# Altium schematic symbol library SL_Other.SchLib: 12 symbols
Pins are listed as number, name and electrical type; pins without a type are passive.

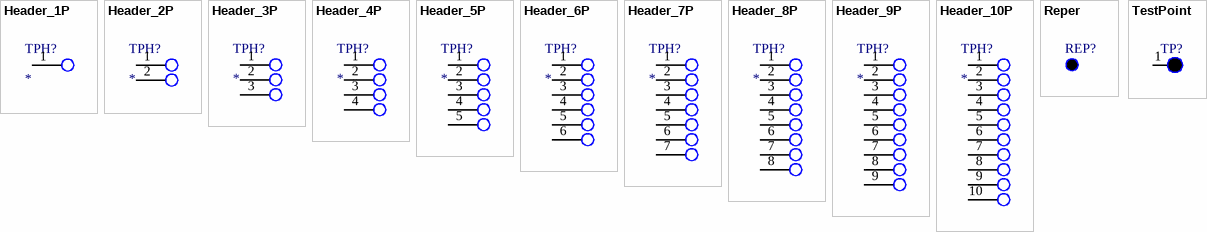
[diagram p0: symbols Header_1P to TestPoint]

## Header_1P
designator TPH?  (no BOM)
Dot 1P
footprint HEADER_R0.3_1P
footprint HEADER_R0.5_1P
footprint HEADER_R0.7_1P
footprint HEADER_R0.9_1P
footprint HEADER_R1.1_1P
footprint HEADER_R1.3_1P
pins: 1

## Header_2P
designator TPH?  (no BOM)
Dot 2P
footprint HEADER_R0.3_2P
footprint HEADER_R0.5_2P
footprint HEADER_R0.7_2P
footprint HEADER_R0.9_2P
footprint HEADER_R1.1_2P
footprint HEADER_R1.3_2P
pins: 1, 2

## Header_3P
designator TPH?  (no BOM)
Dot 3P
footprint HEADER_R0.3_3P
footprint HEADER_R0.5_3P
footprint HEADER_R0.7_3P
footprint HEADER_R0.9_3P
footprint HEADER_R1.1_3P
footprint HEADER_R1.3_3P
pins: 1, 2, 3

## Header_4P
designator TPH?  (no BOM)
Dot 4P
footprint HEADER_R0.3_4P
footprint HEADER_R0.5_4P
footprint HEADER_R0.7_4P
footprint HEADER_R0.9_4P
footprint HEADER_R1.1_4P
footprint HEADER_R1.3_4P
pins: 1, 2, 3, 4

## Header_5P
designator TPH?  (no BOM)
Dot 5P
footprint HEADER_R0.3_5P
footprint HEADER_R0.5_5P
footprint HEADER_R0.7_5P
footprint HEADER_R0.9_5P
footprint HEADER_R1.1_5P
footprint HEADER_R1.3_5P
pins: 1, 2, 3, 4, 5

## Header_6P
designator TPH?  (no BOM)
Dot 6P
footprint HEADER_R0.3_6P
footprint HEADER_R0.5_6P
footprint HEADER_R0.7_6P
footprint HEADER_R0.9_6P
footprint HEADER_R1.1_6P
footprint HEADER_R1.3_6P
pins: 1, 2, 3, 4, 5, 6

## Header_7P
designator TPH?  (no BOM)
Dot 7P
footprint HEADER_R0.3_7P
footprint HEADER_R0.5_7P
footprint HEADER_R0.7_7P
footprint HEADER_R0.9_7P
footprint HEADER_R1.1_7P
footprint HEADER_R1.3_7P
pins: 1, 2, 3, 4, 5, 6, 7

## Header_8P
designator TPH?  (no BOM)
Dot 8P
footprint HEADER_R0.3_8P
footprint HEADER_R0.5_8P
footprint HEADER_R0.7_8P
footprint HEADER_R0.9_8P
footprint HEADER_R1.1_8P
footprint HEADER_R1.3_8P
pins: 1, 2, 3, 4, 5, 6, 7, 8

## Header_9P
designator TPH?  (no BOM)
Dot 9P
footprint HEADER_R0.3_9P
footprint HEADER_R0.5_9P
footprint HEADER_R0.7_9P
footprint HEADER_R0.9_9P
footprint HEADER_R1.1_9P
footprint HEADER_R1.3_9P
pins: 1, 2, 3, 4, 5, 6, 7, 8, 9

## Header_10P
designator TPH?  (no BOM)
Dot 10P
footprint HEADER_R0.3_10P
footprint HEADER_R0.5_10P
footprint HEADER_R0.7_10P
footprint HEADER_R0.9_10P
footprint HEADER_R1.1_10P
footprint HEADER_R1.3_10P
pins: 1, 2, 3, 4, 5, 6, 7, 8, 9, 10

## Reper
designator REP?, comment Reper Dot  (value not drawn)  (no BOM)
footprint REPER (Reper Dot)

## TestPoint
designator TP?  (value not drawn)  (no BOM)
footprint TP_R0.3
footprint TP_R0.5
footprint TP_R0.7
footprint TP_R0.9
footprint TP_R0.11
footprint TP_P0.11
footprint TP_P0.3
footprint TP_P0.5
footprint TP_P0.7
footprint TP_P0.9
footprint TP_R0.13
pins: 1